# Altium integrated library T521X336M050ATE075.IntLib: 1 symbol
Pins are listed as number, name and electrical type; pins without a type are passive.

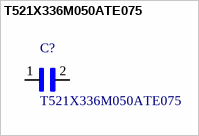
[diagram p0: symbol T521X336M050ATE075]

## T521X336M050ATE075
designator C?
/ 33ÂµF Molded Tantalum Polymer Capacitor 50V 2917 _7343 Metric_ 75mOhm @ 100kHz /; MF: KEMET; MP: T521X336M050ATE075; Package: 2917 KEMET; Digi-Key_Purchase_URL: https://www.digikey.com/product-detail/en/kemet/T521X336M050ATE075/399-11721-1-ND/5131720?utm_source=snapeda&utm_medium=aggregator&utm_campaign=symbol; Digi-Key_Part_Number: 399-11721-1-ND; SnapEDA_Link: https://www.snapeda.com/parts/T521X336M050ATE075/KEMET/view-part/1735992/?ref=snap; Value: *
footprint *CAPPC7343X430N
pins: 1, 2